# EAGLE library part FLASH-POWER-SUPPLY (library FiftyOneFunParts)
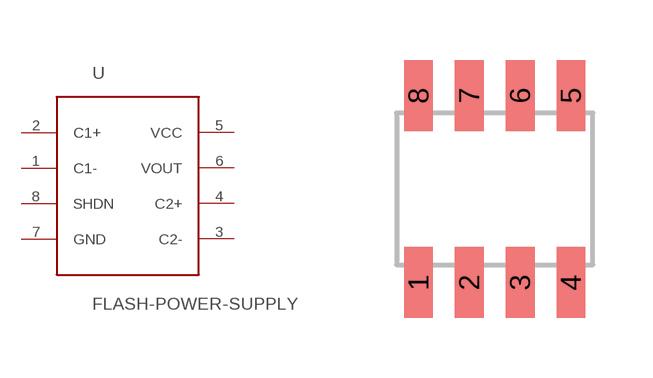
[diagram p4: symbol with the pads of FLASH-POWER-SUPPLY; footprint FLASH-POWER-SUPPLY]

Designator prefix -

## FLASH-POWER-SUPPLY  [FLASH-POWER-SUPPLY]
1  C1-
2  C1+
3  C2-
4  C2+
5  VCC
6  VOUT
7  GND
8  SHDN

## Footprint FLASH-POWER-SUPPLY (pad centres in mm)
smd 0.72 x 1.78: 1 -1.905,-2.34; 2 -0.635,-2.34; 3 0.635,-2.34; 4 1.905,-2.34; 5 1.905,2.34; 6 0.635,2.34; 7 -0.635,2.34; 8 -1.905,2.34